# Altium footprint library Small Outline (~1.27mm Pitch) - 6to20 Leads.PcbLib: 81 footprints (part 1 of 6)
Each footprint in its own frame and in the unit in brackets; x right, y up, seen from the top. Pads: shape width x height; smd on the part's side, far side on the other; paste and mask are expansions set on the pad; w line width, h text height; cw(c..) or ccw(c..) is an arc to the next point about the centre after c.
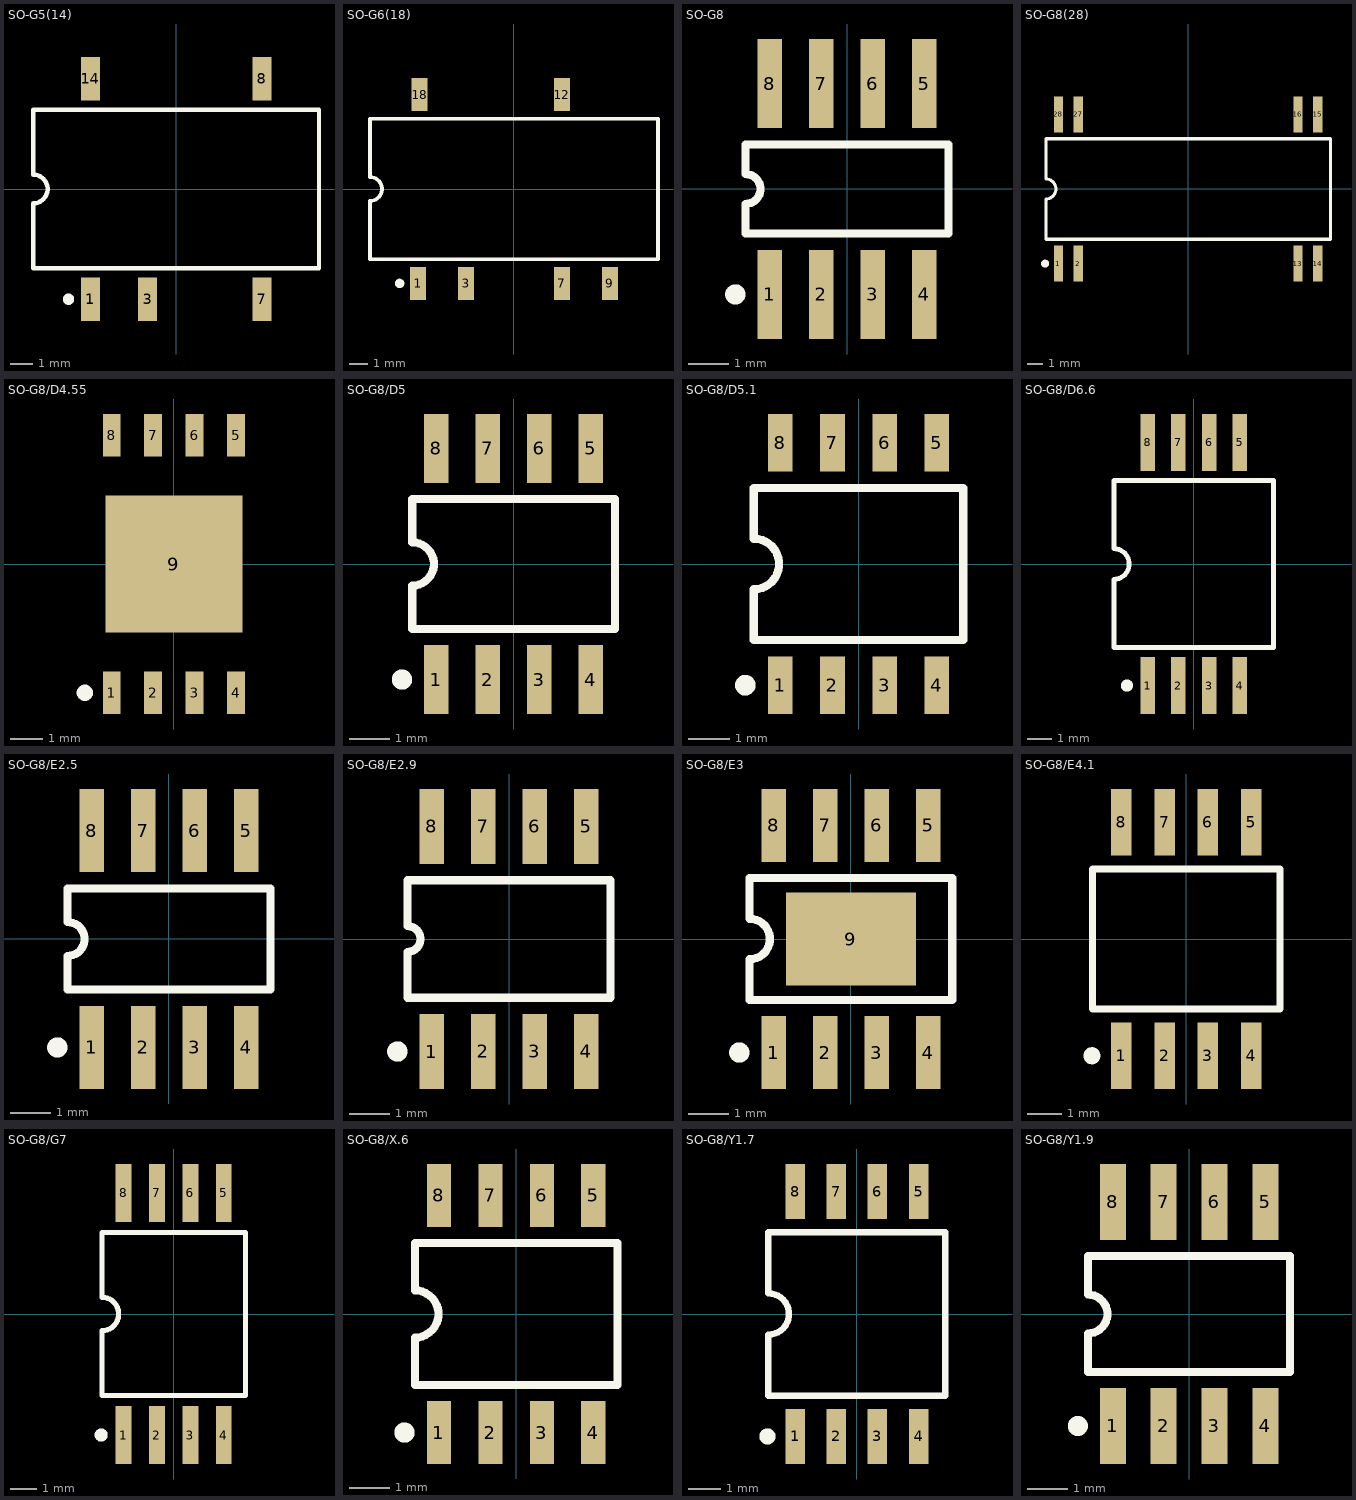
[diagram p0: the footprints below, top view; thin cyan lines are the x and y axes]

## SO-G5(14) [mm] "Small Outline; 5 Leads; Body Width 7.7 mm; Pitch 1.27 mm"
height 6.43
pads (5):
  rect 0.85x1.95 smd: 1(-3.81,-4.9) 3(-1.27,-4.9) 7(3.81,-4.9) 8(3.81,4.9) 14(-3.81,4.9)
Top Overlay:
  circle w0.25: c-4.785,-4.9 r0.125
  lines w0.2: -6.35,-3.525 6.35,-3.525 6.35,3.525 -6.35,3.525 -6.35,0.635 cw(c-6.35,0) -6.35,-0.635 -6.35,-3.525

## SO-G6(18) [mm] "Small Outline; 6 Leads; Body Width 7.7 mm; Pitch 1.27 mm"
height 6.43
pads (6):
  rect 0.85x1.75 smd: 1(-5.08,-5) 3(-2.54,-5) 7(2.54,-5) 9(5.08,-5) 12(2.54,5) 18(-5,5)
Top Overlay:
  circle w0.25: c-6.055,-5 r0.125
  lines w0.2: -7.625,-3.725 7.625,-3.725 7.625,3.725 -7.625,3.725 -7.625,0.635 cw(c-7.625,0) -7.625,-0.635 -7.625,-3.725

## SO-G8 [mm] "Small Outline; 8 Leads; Body Width 3.9 mm; Pitch 1.27 mm"
height 1.75
pads (8):
  rect 0.6x2.2 smd: 1(-1.905,-2.6) 2(-0.635,-2.6) 3(0.635,-2.6) 4(1.905,-2.6) 5(1.905,2.6) 6(0.635,2.6) 7(-0.635,2.6) 8(-1.905,2.6)
Top Overlay:
  circle w0.25: c-2.755,-2.6 r0.125
  lines w0.2: -2.5,-1.1 2.5,-1.1 2.5,1.1 -2.5,1.1 -2.5,0.367 cw(c-2.5,0) -2.5,-0.367 -2.5,-1.1

## SO-G8(28) [mm] "Small Outline; 8 Leads; Body Width 7.5 mm; Pitch 1.27 mm"
height 2.64
pads (8):
  rect 0.6x2.3 smd: 1(-8.255,-4.75) 2(-6.985,-4.75) 13(6.985,-4.75) 14(8.255,-4.75) 15(8.255,4.75) 16(6.985,4.75) 27(-6.985,4.75) 28(-8.255,4.75)
Top Overlay:
  circle w0.25: c-9.105,-4.75 r0.125
  lines w0.2: -9.05,-3.2 9.05,-3.2 9.05,3.2 -9.05,3.2 -9.05,0.635 cw(c-9.05,0) -9.05,-0.635 -9.05,-3.2

## SO-G8/D4.55 [mm] "Small Outline; 8 Leads; Body Width 4.2 mm; Pitch 1.27 mm"
height 1.45
pads (9):
  rect 0.55x1.3 smd: 1(-1.905,-3.95) 2(-0.635,-3.95) 3(0.635,-3.95) 4(1.905,-3.95) 5(1.905,3.95) 6(0.635,3.95) 7(-0.635,3.95) 8(-1.905,3.95)
  rect 4.2x4.2 smd: 9(0,0)
Top Overlay:
  circle w0.25: c-2.73,-3.95 r0.125

## SO-G8/D5 [mm] "Small Outline, Narrow; 8 Leads; Body Width 3.9 mm; Pitch 1.27 mm"
height 2.59
pads (8):
  rect 0.6x1.7 smd: 1(-1.905,-2.85) 2(-0.635,-2.85) 3(0.635,-2.85) 4(1.905,-2.85) 5(1.905,2.85) 6(0.635,2.85) 7(-0.635,2.85) 8(-1.905,2.85)
Top Overlay:
  circle w0.25: c-2.755,-2.85 r0.125
  lines w0.2: -2.5,-1.6 2.5,-1.6 2.5,1.6 -2.5,1.6 -2.5,0.533 cw(c-2.5,0) -2.5,-0.533 -2.5,-1.6

## SO-G8/D5.1 [mm] "Small Outline; 8 Leads; Body Width 3.9 mm; Pitch 1.27 mm"
height 1.42
pads (8):
  rect 0.6x1.4 smd: 1(-1.905,-2.95) 2(-0.635,-2.95) 3(0.635,-2.95) 4(1.905,-2.95) 5(1.905,2.95) 6(0.635,2.95) 7(-0.635,2.95) 8(-1.905,2.95)
Top Overlay:
  circle w0.25: c-2.755,-2.95 r0.125
  lines w0.2: -2.55,-1.85 -2.55,-0.617 ccw(c-2.55,0) -2.55,0.617 -2.55,1.85 2.55,1.85 2.55,-1.85 -2.55,-1.85

## SO-G8/D6.6 [mm] "Small Outline; 8 Leads; Body Width 6.5 mm; Pitch 1.27 mm"
height 2.49
pads (8):
  rect 0.6x2.35 smd: 1(-1.905,-5.025) 2(-0.635,-5.025) 3(0.635,-5.025) 4(1.905,-5.025) 5(1.905,5.025) 6(0.635,5.025) 7(-0.635,5.025) 8(-1.905,5.025)
Top Overlay:
  circle w0.25: c-2.755,-5.025 r0.125
  lines w0.2: -3.3,-3.45 3.3,-3.45 3.3,3.45 -3.3,3.45 -3.3,0.635 cw(c-3.3,0) -3.3,-0.635 -3.3,-3.45

## SO-G8/E2.5 [mm] "Small Outline, Plastic; 8 Leads; Body Width 3.9 mm"
height 1.75
pads (8):
  rect 0.6x2.05 smd: 1(-1.905,-2.675) 2(-0.635,-2.675) 3(0.635,-2.675) 4(1.905,-2.675) 5(1.905,2.675) 6(0.635,2.675) 7(-0.635,2.675) 8(-1.905,2.675)
Top Overlay:
  circle w0.25: c-2.755,-2.675 r0.125
  lines w0.2: -2.5,-1.25 -2.5,-0.417 ccw(c-2.5,0) -2.5,0.417 -2.5,1.25 2.5,1.25 2.5,-1.25 -2.5,-1.25

## SO-G8/E2.9 [mm] "Small Outline; 8 Leads; Body Width 3.9 mm; Pitch 1.27 mm"
height 1.75
pads (8):
  rect 0.6x1.85 smd: 1(-1.905,-2.775) 2(-0.635,-2.775) 3(0.635,-2.775) 4(1.905,-2.775) 5(1.905,2.775) 6(0.635,2.775) 7(-0.635,2.775) 8(-1.905,2.775)
Top Overlay:
  circle w0.25: c-2.755,-2.775 r0.125
  lines w0.2: -2.5,-1.45 -2.5,-0.318 ccw(c-2.5,0) -2.5,0.318 -2.5,1.45 2.5,1.45 2.5,-1.45 -2.5,-1.45

## SO-G8/E3 [mm] "Small Outline; 8 Leads; Body Width 3.9 mm; Pitch 1.27 mm"
height 1.55
pads (9):
  rect 0.6x1.8 smd: 1(-1.905,-2.8) 2(-0.635,-2.8) 3(0.635,-2.8) 4(1.905,-2.8) 5(1.905,2.8) 6(0.635,2.8) 7(-0.635,2.8) 8(-1.905,2.8)
  rect 3.2x2.3 smd: 9(0,0)
Top Overlay:
  circle w0.25: c-2.755,-2.8 r0.125
  lines w0.2: -2.5,-1.5 2.5,-1.5 2.5,1.5 -2.5,1.5 -2.5,0.5 cw(c-2.5,0) -2.5,-0.5 -2.5,-1.5

## SO-G8/E4.1 [mm] "Small Outline; 8 Leads; Body Width 5.3 mm; Pitch 1.27 mm"
height 2.03
pads (8):
  rect 0.6x1.95 smd: 1(-1.905,-3.425) 2(-0.635,-3.425) 3(0.635,-3.425) 4(1.905,-3.425) 5(1.905,3.425) 6(0.635,3.425) 7(-0.635,3.425) 8(-1.905,3.425)
Top Overlay:
  circle w0.25: c-2.765,-3.425 r0.125
  lines w0.2: -2.75,-2.05 -2.75,-0.683 -2.75,2.05 2.75,2.05 2.75,-2.05 -2.75,-2.05

## SO-G8/G7 [mm] "Small Outline; 8 Leads; Body Width 7.5 mm; Pitch 1.27 mm"
height 2.65
pads (8):
  rect 0.6x2.2 smd: 1(-1.905,-4.6) 2(-0.635,-4.6) 3(0.635,-4.6) 4(1.905,-4.6) 5(1.905,4.6) 6(0.635,4.6) 7(-0.635,4.6) 8(-1.905,4.6)
Top Overlay:
  circle w0.25: c-2.755,-4.6 r0.125
  lines w0.2: -2.725,-3.1 2.725,-3.1 2.725,3.1 -2.725,3.1 -2.725,0.635 cw(c-2.725,0) -2.725,-0.635 -2.725,-3.1

## SO-G8/X.6 [mm] "Small Outline; 8 Leads; Body Width 3.9 mm; Pitch 1.27 mm"
height 1.73
pads (8):
  rect 0.6x1.55 smd: 1(-1.905,-2.925) 2(-0.635,-2.925) 3(0.635,-2.925) 4(1.905,-2.925) 5(1.905,2.925) 6(0.635,2.925) 7(-0.635,2.925) 8(-1.905,2.925)
Top Overlay:
  circle w0.25: c-2.755,-2.925 r0.125
  lines w0.2: -2.5,-1.75 2.5,-1.75 2.5,1.75 -2.5,1.75 -2.5,0.583 cw(c-2.5,0) -2.5,-0.583 -2.5,-1.75

## SO-G8/Y1.7 [mm] "Small Outline, Plastic, Medium; 8 Leads; Body Width 5.2 mm; Pitch 1.27 mm"
height 2.04
pads (8):
  rect 0.6x1.7 smd: 1(-1.905,-3.775) 2(-0.635,-3.775) 3(0.635,-3.775) 4(1.905,-3.775) 5(1.905,3.775) 6(0.635,3.775) 7(-0.635,3.775) 8(-1.905,3.775)
Top Overlay:
  circle w0.25: c-2.755,-3.775 r0.125
  lines w0.2: -2.725,-2.525 2.725,-2.525 2.725,2.525 -2.725,2.525 -2.725,0.635 cw(c-2.725,0) -2.725,-0.635 -2.725,-2.525

## SO-G8/Y1.9 [mm] "Small Outline; 8 Leads; Body Width 3.9 mm; Pitch 1.27 mm"
height 2.72
pads (8):
  rect 0.65x1.9 smd: 1(-1.905,-2.8) 2(-0.635,-2.8) 3(0.635,-2.8) 4(1.905,-2.8) 5(1.905,2.8) 6(0.635,2.8) 7(-0.635,2.8) 8(-1.905,2.8)
Top Overlay:
  circle w0.25: c-2.78,-2.8 r0.125
  lines w0.2: -2.525,-1.45 -2.525,-0.483 ccw(c-2.525,0) -2.525,0.483 -2.525,1.45 2.525,1.45 2.525,-1.45 -2.525,-1.45